# EAGLE library part QUAD7SEG (library jasons_stuff)
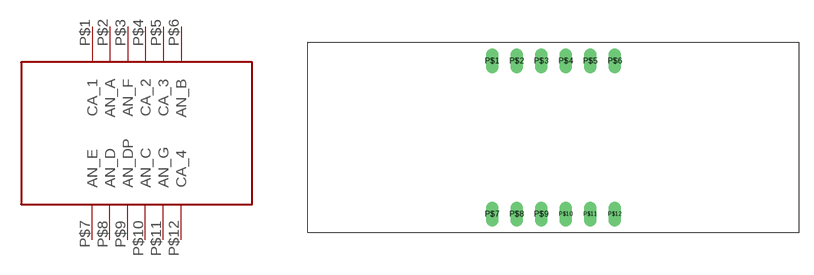
[diagram p42: symbol with the pads of QUAD7SEG; footprint QUAD7SEG]

Designator prefix -

## QUAD7SEG  [QUAD7SEG]
P$1  CA_1
P$2  AN_A
P$3  AN_F
P$4  CA_2
P$5  CA_3
P$6  AN_B
P$7  AN_E
P$8  AN_D
P$9  AN_DP
P$10  AN_C
P$11  AN_G
P$12  CA_4

## Footprint QUAD7SEG (pad centres in mm)
drill 0.8 long: P$1 -6.35,8.89; P$2 -3.81,8.89; P$3 -1.27,8.89; P$4 1.27,8.89; P$5 3.81,8.89; P$6 6.35,8.89; P$7 -6.35,-6.985; P$8 -3.81,-6.985; P$9 -1.27,-6.985; P$10 1.27,-6.985; P$11 3.81,-6.985; P$12 6.35,-6.985